# EAGLE library part LT1058SWPBF (library 029000100  -  gKEagleLibrary)
Dual and Quad, JFET Input Precision High Speed Op Amps
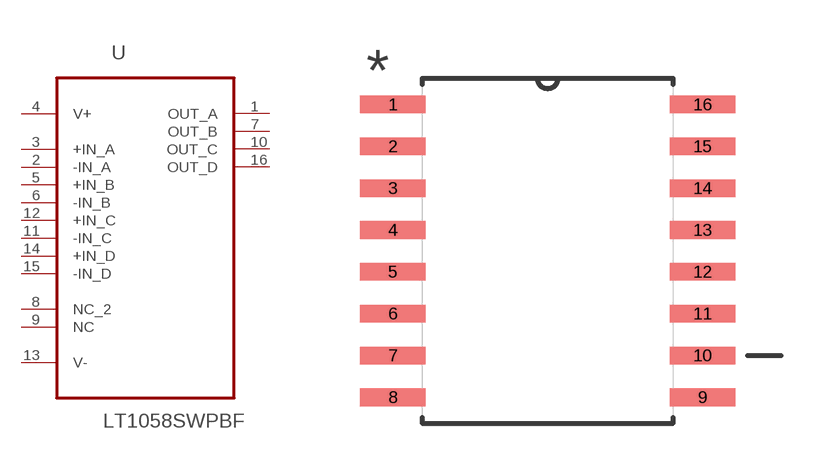
[diagram p30: symbol with the pads of SOIC127P1032X264-16N; footprint SOIC127P1032X264-16N]

Designator prefix U

## LT1058SWPBF (MPN: LT1058SW#PBF; OC_FARNELL: 1330572; OC_NEWARK: 57M1238; PACKAGE: SOIC-16; SUPPLIER: Linear Technology)  [SOIC127P1032X264-16N]
1  OUT_A  out
2  -IN_A  in
3  +IN_A  in
4  V+  pwr
5  +IN_B  in
6  -IN_B  in
7  OUT_B  out
8  NC_2  nc
9  NC  nc
10  OUT_C  out
11  -IN_C  in
12  +IN_C  in
13  V-  pwr
14  +IN_D  in
15  -IN_D  in
16  OUT_D  out

## Footprint SOIC127P1032X264-16N (pad centres in mm)
smd 1.981 x 0.533: 1 -4.699,4.445; 2 -4.699,3.175; 3 -4.699,1.905; 4 -4.699,0.635; 5 -4.699,-0.635; 6 -4.699,-1.905; 7 -4.699,-3.175; 8 -4.699,-4.445; 9 4.699,-4.445; 10 4.699,-3.175; 11 4.699,-1.905; 12 4.699,-0.635; 13 4.699,0.635; 14 4.699,1.905; 15 4.699,3.175; 16 4.699,4.445